# EAGLE library part SMARTPRJ_ATMEGA32U4-XU (library detali_controller)
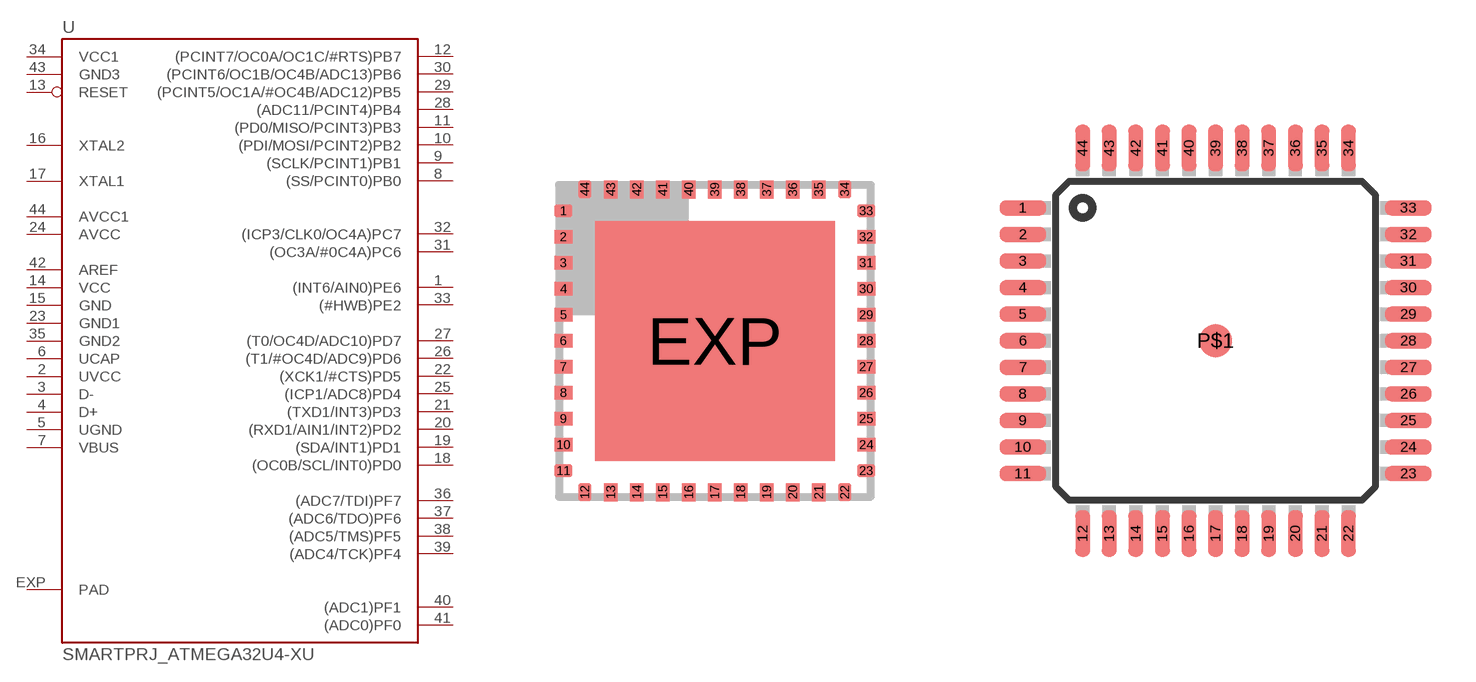
[diagram p6: symbol with the pads of SMARTPRJ_QFN44ML8X8; footprints SMARTPRJ_QFN44ML8X8, SMARTPRJ_TQFP44-PAD]

Designator prefix -

## SMARTPRJ_ATMEGA32U4-XU  [SMARTPRJ_QFN44ML8X8]
1  (INT6/AIN0)PE6
2  UVCC  pwr
3  D-
4  D+
5  UGND  pwr
6  UCAP  pas
7  VBUS  in
8  (SS/PCINT0)PB0
9  (SCLK/PCINT1)PB1
10  (PDI/MOSI/PCINT2)PB2
11  (PD0/MISO/PCINT3)PB3
12  (PCINT7/OC0A/OC1C/#RTS)PB7
13  RESET  in
14  VCC  pwr
15  GND  pwr
16  XTAL2
17  XTAL1
18  (OC0B/SCL/INT0)PD0
19  (SDA/INT1)PD1
20  (RXD1/AIN1/INT2)PD2
21  (TXD1/INT3)PD3
22  (XCK1/#CTS)PD5
23  GND1  pwr
24  AVCC  pwr
25  (ICP1/ADC8)PD4
26  (T1/#OC4D/ADC9)PD6
27  (T0/OC4D/ADC10)PD7
28  (ADC11/PCINT4)PB4
29  (PCINT5/OC1A/#OC4B/ADC12)PB5
30  (PCINT6/OC1B/OC4B/ADC13)PB6
31  (OC3A/#0C4A)PC6
32  (ICP3/CLK0/OC4A)PC7
33  (#HWB)PE2
34  VCC1  pwr
35  GND2  pwr
36  (ADC7/TDI)PF7
37  (ADC6/TDO)PF6
38  (ADC5/TMS)PF5
39  (ADC4/TCK)PF4
40  (ADC1)PF1
41  (ADC0)PF0
42  AREF  pwr
43  GND3  pwr
44  AVCC1  pwr
EXP  PAD  pwr

## SMARTPRJ_ATMEGA32U4-XUAU  [SMARTPRJ_TQFP44-PAD]
1  (INT6/AIN0)PE6
2  UVCC  pwr
3  D-
4  D+
5  UGND  pwr
6  UCAP  pas
7  VBUS  in
8  (SS/PCINT0)PB0
9  (SCLK/PCINT1)PB1
10  (PDI/MOSI/PCINT2)PB2
11  (PD0/MISO/PCINT3)PB3
12  (PCINT7/OC0A/OC1C/#RTS)PB7
13  RESET  in
14  VCC  pwr
15  GND  pwr
16  XTAL2
17  XTAL1
18  (OC0B/SCL/INT0)PD0
19  (SDA/INT1)PD1
20  (RXD1/AIN1/INT2)PD2
21  (TXD1/INT3)PD3
22  (XCK1/#CTS)PD5
23  GND1  pwr
24  AVCC  pwr
25  (ICP1/ADC8)PD4
26  (T1/#OC4D/ADC9)PD6
27  (T0/OC4D/ADC10)PD7
28  (ADC11/PCINT4)PB4
29  (PCINT5/OC1A/#OC4B/ADC12)PB5
30  (PCINT6/OC1B/OC4B/ADC13)PB6
31  (OC3A/#0C4A)PC6
32  (ICP3/CLK0/OC4A)PC7
33  (#HWB)PE2
34  VCC1  pwr
35  GND2  pwr
36  (ADC7/TDI)PF7
37  (ADC6/TDO)PF6
38  (ADC5/TMS)PF5
39  (ADC4/TCK)PF4
40  (ADC1)PF1
41  (ADC0)PF0
42  AREF  pwr
43  GND3  pwr
44  AVCC1  pwr
P$1  PAD  pwr

## SMARTPRJ_ATMEGA32U4-XUMU  [SMARTPRJ_QFN44ML7X7]
Pads as for SMARTPRJ_QFN44ML8X8

## Footprint SMARTPRJ_QFN44ML8X8 (pad centres in mm)
44-Lead Plastic Quad Flat No Lead Package (ML) 8x8 mm Body (QFN) Source: http://ww1.microchip.com/downloads/en/devicedoc/39632c.pdf
smd 0.45 x 0.33: 1 -3.788,3.25; 2 -3.788,2.6; 3 -3.788,1.95; 4 -3.788,1.3; 5 -3.788,0.65; 6 -3.788,0; 7 -3.788,-0.65; 8 -3.788,-1.3; 9 -3.788,-1.95; 10 -3.788,-2.6; 11 -3.788,-3.25; 23 3.788,-3.25; 24 3.788,-2.6; 25 3.788,-1.95; 26 3.788,-1.3; 27 3.788,-0.65; 28 3.788,0; 29 3.788,0.65; 30 3.788,1.3; 31 3.788,1.95; 32 3.788,2.6; 33 3.788,3.25
smd 0.33 x 0.45: 12 -3.25,-3.788; 13 -2.6,-3.788; 14 -1.95,-3.788; 15 -1.3,-3.788; 16 -0.65,-3.788; 17 0,-3.788; 18 0.65,-3.788; 19 1.3,-3.788; 20 1.95,-3.788; 21 2.6,-3.788; 22 3.25,-3.788; 34 3.25,3.788; 35 2.6,3.788; 36 1.95,3.788; 37 1.3,3.788; 38 0.65,3.788; 39 0,3.788; 40 -0.65,3.788; 41 -1.3,3.788; 42 -1.95,3.788; 43 -2.6,3.788; 44 -3.25,3.788
smd 6 x 6: EXP 0,0

## Footprint SMARTPRJ_TQFP44-PAD (pad centres in mm)
44-lead Thin Quad Flat Package
smd 1.4 x 0.45: 1 -5.8,4; 2 -5.8,3.2; 3 -5.8,2.4; 4 -5.8,1.6; 5 -5.8,0.8; 6 -5.8,0; 7 -5.8,-0.8; 8 -5.8,-1.6; 9 -5.8,-2.4; 10 -5.8,-3.2; 11 -5.8,-4; 23 5.8,-4; 24 5.8,-3.2; 25 5.8,-2.4; 26 5.8,-1.6; 27 5.8,-0.8; 28 5.8,0; 29 5.8,0.8; 30 5.8,1.6; 31 5.8,2.4; 32 5.8,3.2; 33 5.8,4
smd 0.45 x 1.4: 12 -4,-5.8; 13 -3.2,-5.8; 14 -2.4,-5.8; 15 -1.6,-5.8; 16 -0.8,-5.8; 17 0,-5.8; 18 0.8,-5.8; 19 1.6,-5.8; 20 2.4,-5.8; 21 3.2,-5.8; 22 4,-5.8; 34 4,5.8; 35 3.2,5.8; 36 2.4,5.8; 37 1.6,5.8; 38 0.8,5.8; 39 0,5.8; 40 -0.8,5.8; 41 -1.6,5.8; 42 -2.4,5.8; 43 -3.2,5.8; 44 -4,5.8
smd 1 x 1: P$1 0,0

## Footprint SMARTPRJ_QFN44ML7X7 (pad centres in mm)
smd 0.75 x 0.275: 1 -3.275,2.5; 2 -3.275,2; 3 -3.275,1.5; 4 -3.275,1; 5 -3.275,0.5; 6 -3.275,0; 7 -3.275,-0.5; 8 -3.275,-1; 9 -3.275,-1.5; 10 -3.275,-2; 11 -3.275,-2.5; 23 3.275,-2.5; 24 3.275,-2; 25 3.275,-1.5; 26 3.275,-1; 27 3.275,-0.5; 28 3.275,0; 29 3.275,0.5; 30 3.275,1; 31 3.275,1.5; 32 3.275,2; 33 3.275,2.5
smd 0.275 x 0.75: 12 -2.5,-3.275; 13 -2,-3.275; 14 -1.5,-3.275; 15 -1,-3.275; 16 -0.5,-3.275; 17 0,-3.275; 18 0.5,-3.275; 19 1,-3.275; 20 1.5,-3.275; 21 2,-3.275; 22 2.5,-3.275; 34 2.5,3.275; 35 2,3.275; 36 1.5,3.275; 37 1,3.275; 38 0.5,3.275; 39 0,3.275; 40 -0.5,3.275; 41 -1,3.275; 42 -1.5,3.275; 43 -2,3.275; 44 -2.5,3.275
smd 4.826 x 4.826: EXP 0,0